# EAGLE library part SI9200EY (library Vishay_By_element14_Batch_1)
CAN Bus Driver and Receiver
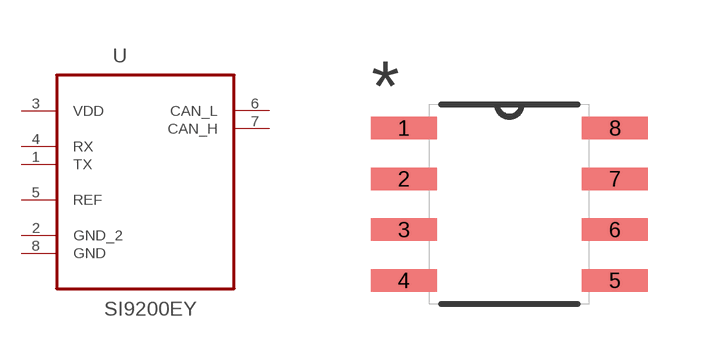
[diagram p98: symbol with the pads of SOIC127P600X175-8N; footprint SOIC127P600X175-8N]

Designator prefix U

## SI9200EY (MPN: SI9200EY; OC_FARNELL: 1077082; OC_NEWARK: 34C4973; PACKAGE: SOIC-8; SUPPLIER: VISHAY SILICONIX)  [SOIC127P600X175-8N]
1  TX  in
2  GND_2  pas
3  VDD  pwr
4  RX  pwr
5  REF  in
6  CAN_L  out
7  CAN_H  out
8  GND  pas

## Footprint SOIC127P600X175-8N (pad centres in mm)
smd 1.651 x 0.559: 1 -2.642,1.905; 2 -2.642,0.635; 3 -2.642,-0.635; 4 -2.642,-1.905; 5 2.642,-1.905; 6 2.642,-0.635; 7 2.642,0.635; 8 2.642,1.905